# Altium footprint library 04853.15DR.PcbLib: 2 footprints
Each footprint in its own frame and in the unit in brackets; x right, y up, seen from the top. Pads: shape width x height; smd on the part's side, far side on the other; paste and mask are expansions set on the pad; w line width, h text height; cw(c..) or ccw(c..) is an arc to the next point about the centre after c.
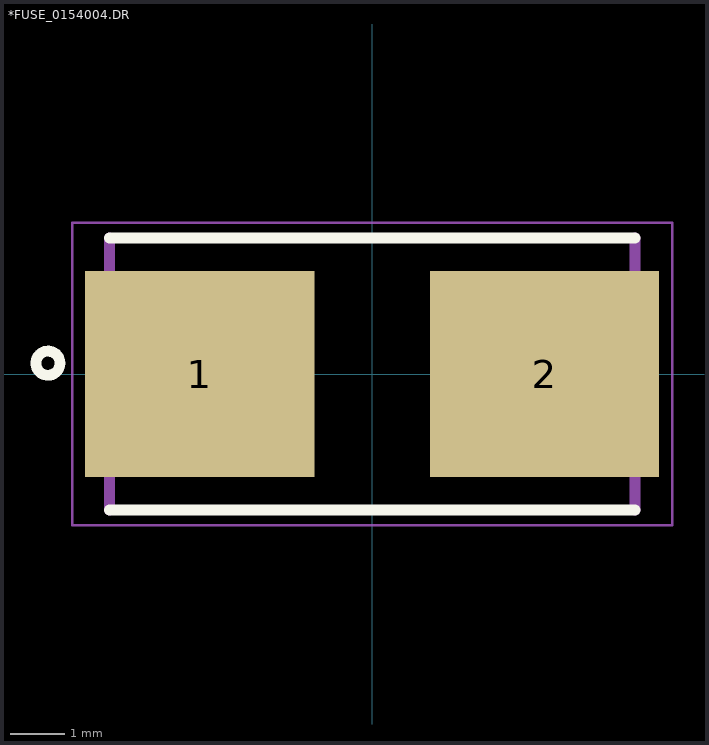
[diagram p0: the footprints below, top view; thin cyan lines are the x and y axes]

## *FUSE_0154004.DR [mm]
pads (2):
  rect 4.24x3.81 smd: 1(-3.19,0) 2(3.19,0)
Top Overlay:
  circle w0.2: c-6,0.2 r0.224
  lines w0.2: -4.863,-2.515 4.863,-2.515 ; -4.863,2.515 4.863,2.515
Mechanical 13:
  lines w0.2: -4.863,-2.515 -4.863,2.515 -4.863,-2.515 ; 4.863,-2.515 4.863,2.515 4.863,-2.515
Mechanical 15:
  lines w0.05: -5.55,-2.8 -5.55,2.8 5.55,2.8 5.55,-2.8 -5.55,-2.8
3D body: height 0.25, standoff 0, extent 0,0 0,0
3D body "0452005.NRL--3DModel-STEP-56544.STEP": height 2.7, standoff 0.01, extent -3.05,-1.44 3.05,1.5

## PCBComponent_1 [mil]